# EAGLE library part WE-POE_EP13 (library WE-POE_EP13)
Transformer for Power-over-Ethernet WE-PoE - Flyback converter transducer particularly for PoE PDs - Insulation voltage 1,5 kVAC/1 min - Input voltages 36V till 57V -- Flyback converters -- Power-over-Ethernet PDs
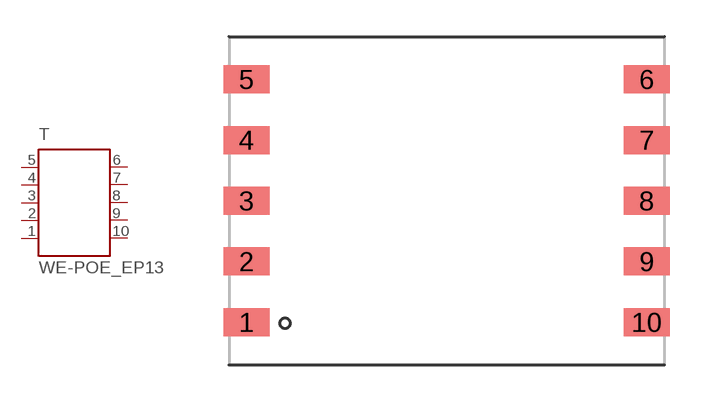
[diagram p0: symbol with the pads of WE_EP13_SMD_10PIN; footprint WE_EP13_SMD_10PIN]

Designator prefix T

## WE-POE_EP13, WE-POE_EP13-7491199112 (MPN: 7491199112; OC_FARNELL: 1849012; OC_NEWARK: 13T9817; PACKAGE: EP13; SUPPLIER: Wuerth Elektronik), WE-POE_EP13-7491199212 (MPN: 7491199212; OC_FARNELL: 1849014; OC_NEWARK: 13T9818; PACKAGE: EP13; SUPPLIER: Wuerth Elektronik), WE-POE_EP13-7491199312 (MPN: 7491199312; OC_FARNELL: 1849017; OC_NEWARK: 13T9819; PACKAGE: EP13; SUPPLIER: Wuerth Elektronik), WE-POE_EP13-749119933 (MPN: 749119933; OC_FARNELL: 1849008; OC_NEWARK: 13T9820; PACKAGE: EP13; SUPPLIER: Wuerth Elektronik), WE-POE_EP13-7491199331 (MPN: 7491199331; OC_FARNELL: 1849009; OC_NEWARK: 13T9821; PACKAGE: EP13; SUPPLIER: Wuerth Elektronik), WE-POE_EP13-7491199332 (MPN: 7491199332; OC_FARNELL: 1849016; OC_NEWARK: 13T9822; PACKAGE: EP13; SUPPLIER: Wuerth Elektronik), WE-POE_EP13-749119950 (MPN: 749119950; OC_FARNELL: 1849010; OC_NEWARK: 13T9823; PACKAGE: EP13; SUPPLIER: Wuerth Elektronik), WE-POE_EP13-7491199501 (MPN: 7491199501; OC_FARNELL: 1849011; OC_NEWARK: 13T9824; PACKAGE: EP13; SUPPLIER: Wuerth Elektronik), WE-POE_EP13-750310013 (MPN: 750310013; OC_FARNELL: 1849015; OC_NEWARK: 13T9825; PACKAGE: EP13; SUPPLIER: Wuerth Elektronik)  [WE_EP13_SMD_10PIN]
1  5  pas
2  4  pas
3  3  pas
4  2  pas
5  1  pas
6  10  pas
7  9  pas
8  8  pas
9  7  pas
10  6  pas

## Footprint WE_EP13_SMD_10PIN (pad centres in mm)
Transformer, EP13 SMD 10 Pin
smd 1.88 x 1.143: 1 -8.18,-4.96; 2 -8.18,-2.48; 3 -8.18,0; 4 -8.18,2.48; 5 -8.18,4.96; 6 8.18,4.96; 7 8.18,2.48; 8 8.18,0; 9 8.18,-2.48; 10 8.18,-4.96